# Altium integrated library Linear Technology PMIC-Switching Reg LTC1174-LTC3901.IntLib: 2647 symbols (part 45 of 310)
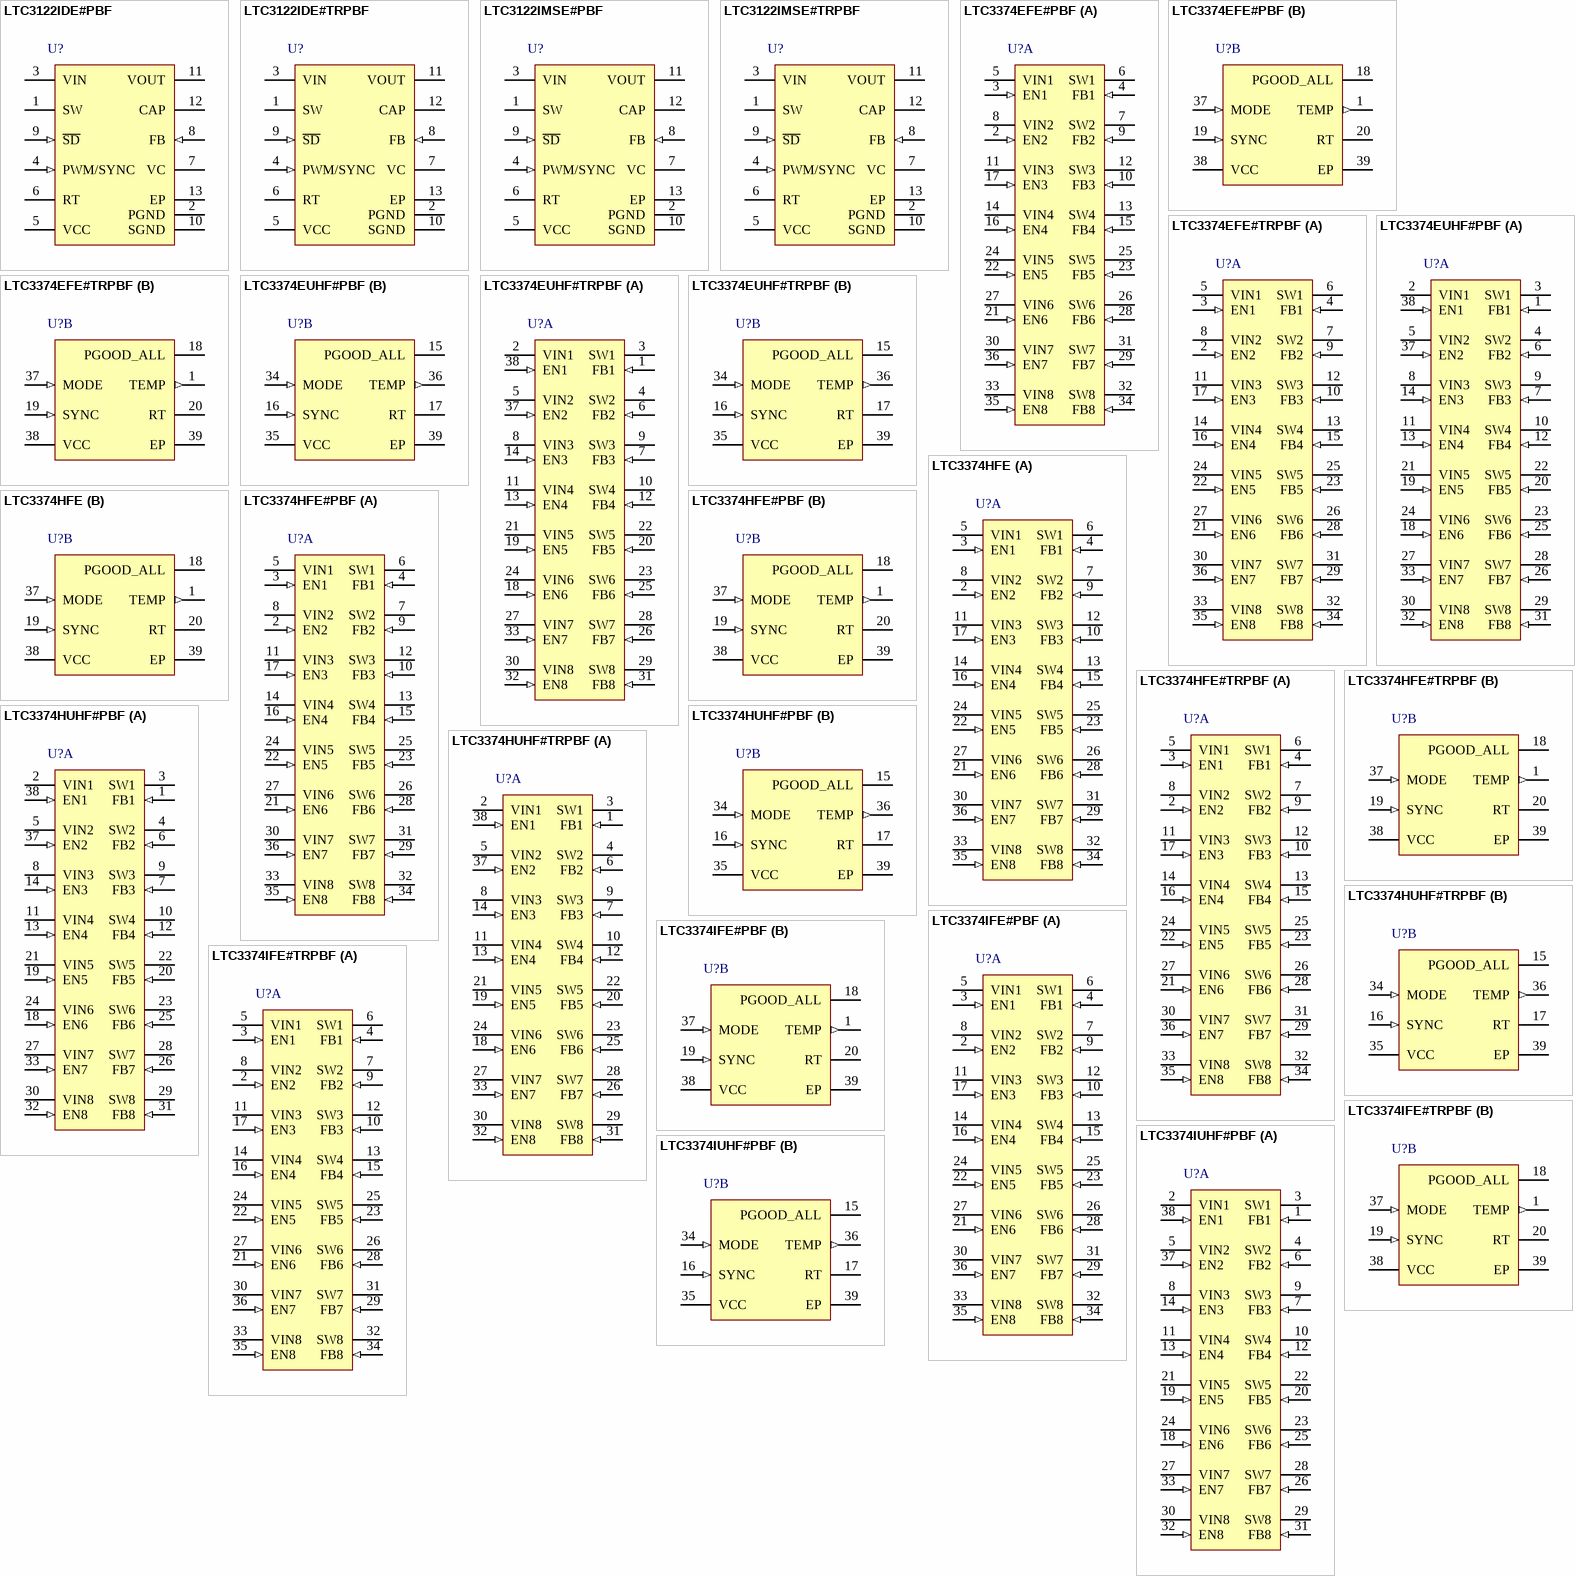
[diagram p242: symbols LTC3122IDE#PBF to LTC3374IUHF#PBF]

## LTC3374IFE#PBF
designator U?
8-Channel Parallelable 1 A Buck Regulator, 38-pin SOP (FE-38-EPV-AA), -40 to 125 degC, Pb-Free; Manufacturer: Linear Technology; PartNumber: LTC3374IFE#PBF; Number of Outputs: 8; PackageReference: FE-38; PackageDescription: 38-Pin Plastic TSSOP, Body 9.7 x 4.4 mm, Pitch 0.5 mm; Supplier 1: Digi-Key; Supplier Part Number 1: LTC3374IFE#PBF-ND; RoHS: TRUE
footprint LT-FE-38-EPV-AA_N (SOP, 38-Leads, Body 9.8x4.5mm, Pitch 0.5mm, Thermal Pad 4.75x2.74mm, IPC Medium Density)
footprint LT-FE-38-EPV-AA_L (SOP, 38-Leads, Body 9.8x4.5mm, Pitch 0.5mm, Thermal Pad 4.75x2.74mm, IPC High Density)
footprint LT-FE-38-EPV-AA_M (SOP, 38-Leads, Body 9.8x4.5mm, Pitch 0.5mm, Thermal Pad 4.75x2.74mm, IPC Low Density)
part A pins: 2 EN2 (in) "Buck Regulator 2 Enable Input. Active high.", 3 EN1 (in) "Buck Regulator 1 Enable Input. Active high.", 4 FB1 (in) "Buck Regulator 1 Feedback Pin. Receives feedback by a resistor divider connected across the output.", 5 VIN1 (power) "Buck Regulator 1 Input Supply. Bypass to GND with a 10uF or larger ceramic capacitor.", 6 SW1 (power) "Buck Regulator 1 Switch Node. External inductor connects to this pin.", 7 SW2 (power) "Buck Regulator 2 Switch Node. External inductor connects to this pin.", 8 VIN2 (power) "Buck Regulator 2 Input Supply. Bypass to GND with a 10uF or larger ceramic capacitor. May be driven by an independent supply or must be shorted to VIN1 when buck regulator 2 is combined with buck regulator 1 for higher (See Datasheet)", 9 FB2 (in) "Buck Regulator 2 Feedback Pin. Receives feedback by a resistor divider connected across the output. Connecting FB2 to VIN2 combines buck regulator 2 with buck regulator 1 for higher current. Up to four converters may be (See Datasheet)", 10 FB3 (in) "Buck Regulator 3 Feedback Pin. Receives feedback by a resistor divider connected across the output. Connecting FB3 to VIN3 combines buck regulator 3 with buck regulator 2 for higher current. Up to four converters may be (See Datasheet)", 11 VIN3 (power) "Buck Regulator 3 Input Supply. Bypass to GND with a 10uF or larger ceramic capacitor. May be driven by an independent supply or must be shorted to VIN2 when buck regulator 3 is combined with buck regulator 2 for higher (See Datasheet)", 12 SW3 (power) "Buck Regulator 3 Switch Node. External inductor connects to this pin.", 13 SW4 (power) "Buck Regulator 4 Switch Node. External inductor connects to this pin.", 14 VIN4 (power) "Buck Regulator 4 Input Supply. Bypass to GND with a 10uF or larger ceramic capacitor. May be driven by an independent supply or must be shorted to VIN3 when buck regulator 4 is combined with buck regulator 3 for higher (See Datasheet)", 15 FB4 (in) "Buck Regulator 4 Feedback Pin. Receives feedback by a resistor divider connected across the output. Connecting FB4 to VIN4 combines buck regulator 4 with buck regulator 3 for higher current. Up to four converters may be (See Datasheet)", 16 EN4 (in) "Buck Regulator 4 Enable Input. Active high.", 17 EN3 (in) "Buck Regulator 3 Enable Input. Active high.", 21 EN6 (in) "Buck Regulator 6 Enable Input. Active high.", 22 EN5 (in) "Buck Regulator 5 Enable Input. Active high.", 23 FB5 (in) "Buck Regulator 5 Feedback Pin. Receives feedback by a resistor divider connected across the output. Connecting FB5 to VIN5 combines buck regulator 5 with buck regulator 4 for higher current. Up to four converters may be (See Datasheet)", 24 VIN5 (power) "Buck Regulator 5 Input Supply. Bypass to GND with a 10uF or larger ceramic capacitor. May be driven by an independent supply or must be shorted to VIN4 when buck regulator 5 is combined with buck regulator 4 for higher (See Datasheet)", 25 SW5 (power) "Buck Regulator 5 Switch Node. External inductor connects to this pin.", 26 SW6 (power) "Buck Regulator 6 Switch Node. External inductor connects to this pin.", 27 VIN6 (power) "Buck Regulator 6 Input Supply. Bypass to GND with a 10uF or larger ceramic capacitor. May be driven by an independent supply or must be shorted to VIN5 when buck regulator 6 is combined with buck regulator 5 for higher (See Datasheet)", 28 FB6 (in) "Buck Regulator 6 Feedback Pin. Receives feedback by a resistor divider connected across the output. Connecting FB6 to VIN6 combines buck regulator 6 with buck regulator 5 for higher current. Up to four converters may be (See Datasheet)", 29 FB7 (in) "Buck Regulator 7 Feedback Pin. Receives feedback by a resistor divider connected across the output. Connecting FB7 to VIN7 combines buck regulator 7 with buck regulator 6 for higher current. Up to four converters may be (See Datasheet)", 30 VIN7 (power) "Buck Regulator 7 Input Supply. Bypass to GND with a 10uF or larger ceramic capacitor. May be driven by an independent supply or must be shorted to VIN6 when buck regulator 7 is combined with buck regulator 6 for higher (See Datasheet)", 31 SW7 (power) "Buck Regulator 7 Switch Node. External inductor connects to this pin.", 32 SW8 (power) "Buck Regulator 8 Switch Node. External inductor connects to this pin.", 33 VIN8 (power) "Buck Regulator 8 Input Supply. Bypass to GND with a 10uF or larger ceramic capacitor. May be driven by an independent supply or must be shorted to VIN7 when buck regulator 8 is combined with buck regulator 7 for higher (See Datasheet)", 34 FB8 (in) "Buck Regulator 8 Feedback Pin. Receives feedback by a resistor divider connected across the output. Connecting FB8 to VIN8 combines buck regulator 8 with buck regulator 7 for higher current. Up to four converters may be (See Datasheet)", 35 EN8 (in) "Buck Regulator 8 Enable Input. Active high.", 36 EN7 (in) "Buck Regulator 7 Enable Input. Active high."
part B pins: 1 TEMP (out) "Temperature Indication Pin. TEMP outputs a voltage of 150mV (typical) at room temperature. The TEMP voltage will change by 6.75mV/degreesC (typical) giving an external indication of the LTC3374 internal die temperature.", 18 PGOOD_ALL (oc) "PGOOD Status Pin. Opendrain output. When the regulated output voltage of any enabled switching regulator is more than 7.5% below its programmed level, this pin is driven LOW. When all buck regulators are disabled PGOOD_ALL (See Datasheet)", 19 SYNC (in) "Oscillator Synchronization Pin. Driving SYNC with an external clock signal will synchronize all switchers to the applied frequency. The slope compensation is automatically adapted to the external clock frequency. The absence (See Datasheet)", 20 RT "Oscillator Frequency Pin. This pin provides two modes of setting the switching frequency. Connecting a resistor from RT to ground will set the switching frequency based on the resistor value. If RT is tied to VCC the (See Datasheet)", 37 MODE (in) "Logic Input. MODE enables Burst Mode functionality for all the buck switching regulators when the pin is set low. When the pin is set high, all the buck switching regulators will operate in forced continuous mode.", 38 VCC (power) "Internal Bias Supply. Bypass to GND with a 10uF or larger ceramic capacitor.", 39 EP (power) "Ground. The exposed pad must be connected to a continuous ground plane on the printed circuit board directly under the LTC3374 for electrical contact and rated thermal performance."